# EAGLE library part LIS2DH (library st-microelectronics)
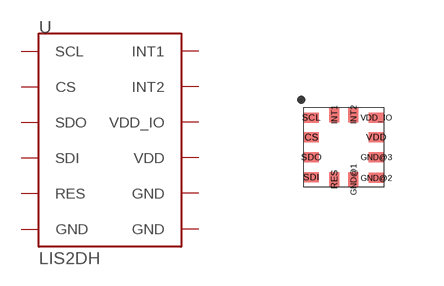
[diagram p51: symbol with the pads of LGA-12; footprint LGA-12]

Designator prefix U

## LIS2DH  [LGA-12]
CS  CS
GND@1  GND
GND@2  GND
GND@3  GND
INT1  INT1
INT2  INT2
RES  RES
SCL  SCL
SDI  SDI
SDO  SDO
VDD  VDD
VDD_IO  VDD_IO

## Footprint LGA-12 (pad centres in mm)
smd 0.375 x 0.25: CS -0.81,0.16; GND@2 0.81,-0.86; GND@3 0.81,-0.34; SCL -0.81,0.65; SDI -0.81,-0.84; SDO -0.81,-0.34; VDD 0.81,0.16; VDD_IO 0.81,0.65
smd 0.25 x 0.375: GND@1 0.24,-0.9; INT1 -0.24,0.72; INT2 0.24,0.72; RES -0.24,-0.9